# Altium schematic symbol library pporyzala-TI_Lighting.SchLib: 745 symbols (part 5 of 48)
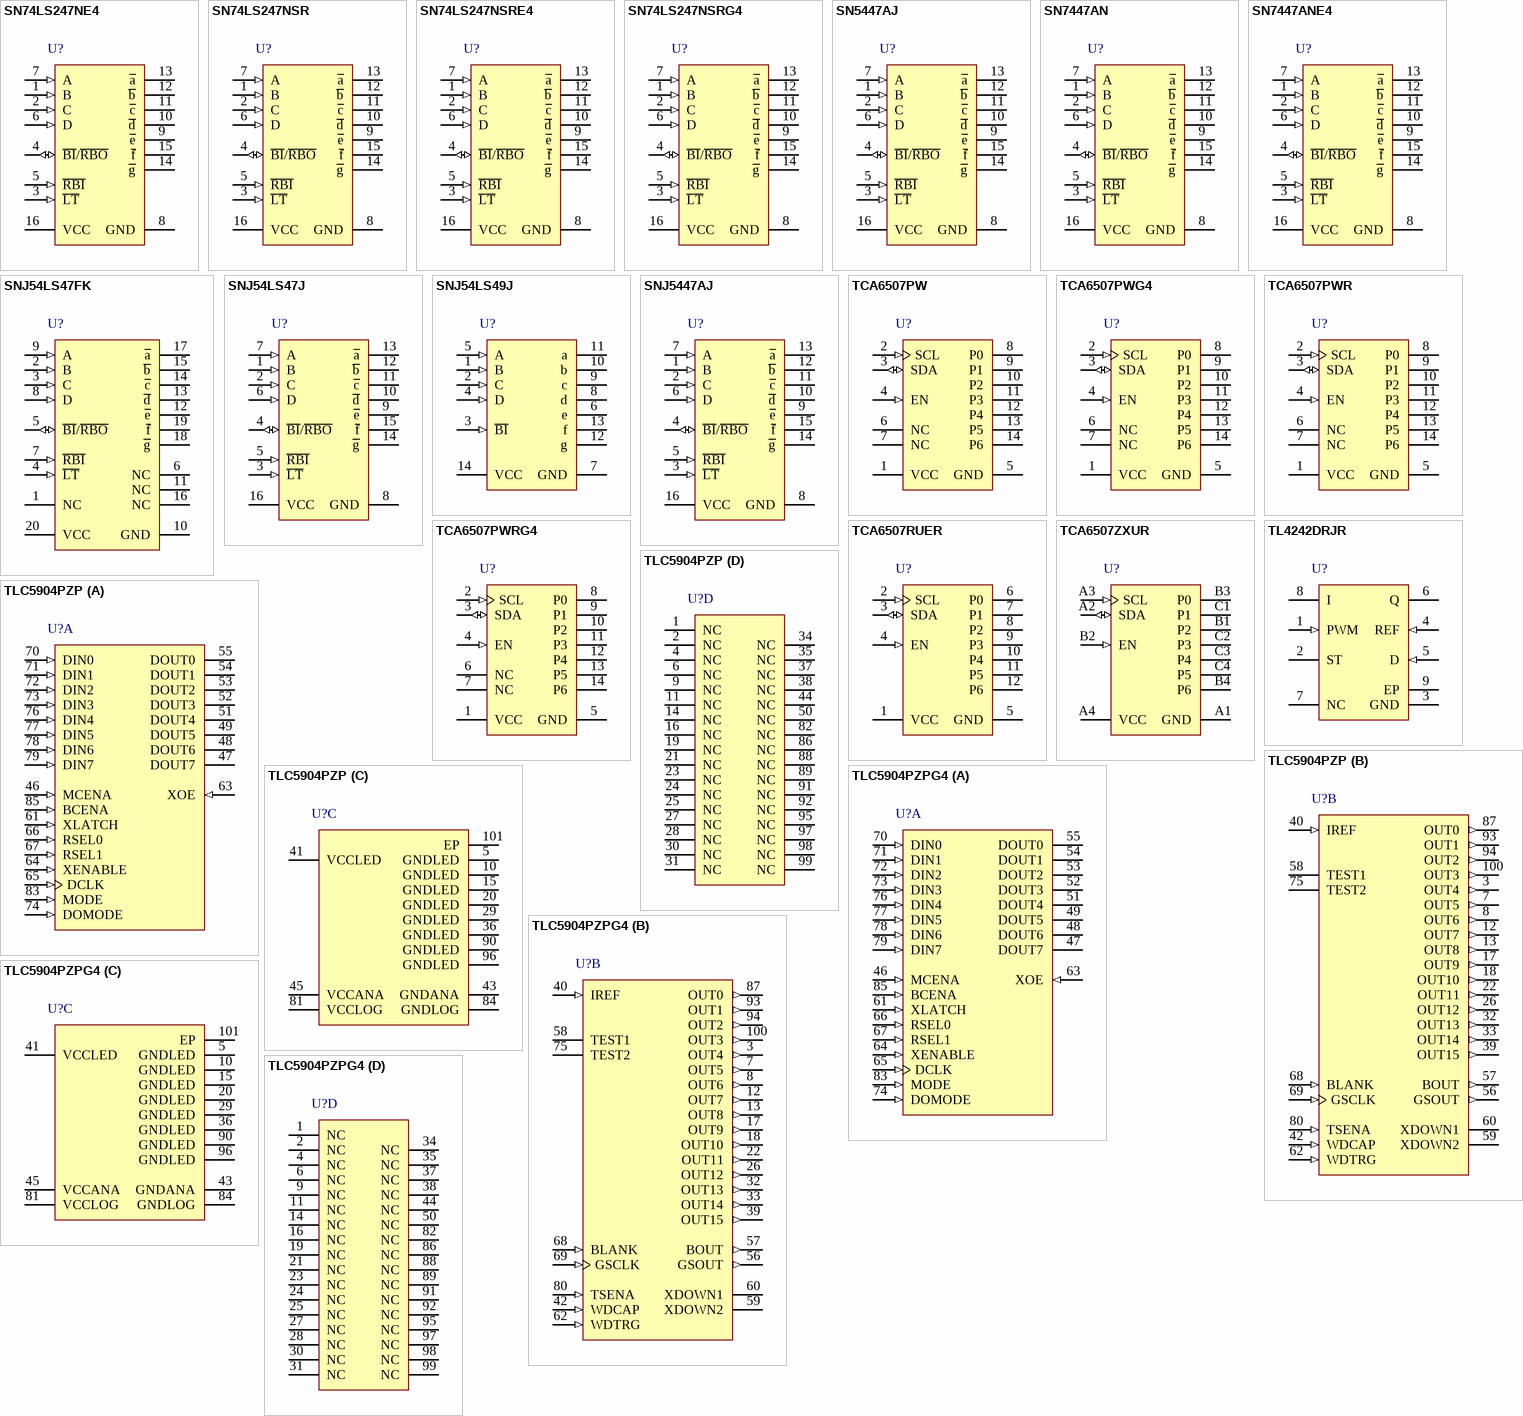
[diagram p35: symbols SN74LS247NE4 to TLC5904PZPG4]

## TLC5904PZPG4
designator U?
8 / 16-Channel LED Driver, 4.5 to 5.5 V, -20 to 85 degC, 100-pin QFP (PZP100), Green (RoHS & no Sb/Br); Manufacturer: Texas Instruments; PartNumber: TLC5904PZPG4; Vin(Max)(V): 5.5; Vin(Min)(V): 4.5; DatasheetVersion: SLLS391; PackageVersion: 4146929/A; PackageReference: PZP100; PackageDescription: 100-Lead, Plastic Flat Pack, Body Size 14 x 14 mm, Pitch 0.5 mm; Supplier 1: Digi-Key; Supplier Part Number 1: TLC5904PZPG4-ND; Supplier 2: Mouser; Supplier Part Number 2: 595-TLC5904PZPG4; Eco-Plan: Green (RoHS & no Sb/Br); SubFamily: LED Driver; Mounting Technology: Surface Mount; Code_JEDEC: MS-026; ComponentLink1Description: Manufacturer URL; ComponentLink1URL: http://www.ti.com/; ComponentLink2Description: Datasheet; ComponentLink2URL: http://www.ti.com/general/docs/lit/getliterature.tsp?genericPartNumber=TLC5904&fileType=pdf; ComponentLink3Description: Package Specification; ComponentLink3URL: http://www.ti.com/lit/ds/symlink/tlc5904.pdf
footprint TI-PZP100-5000X5000TP_N (QFP, 100-Leads, Body 14x14mm, Pitch 0.5mm, Thermal Pad 5x5mm, IPC Medium Density)
footprint TI-PZP100-5000X5000TP_L (QFP, 100-Leads, Body 14x14mm, Pitch 0.5mm, Thermal Pad 5x5mm, IPC High Density)
footprint TI-PZP100-5000X5000TP_M (QFP, 100-Leads, Body 14x14mm, Pitch 0.5mm, Thermal Pad 5x5mm, IPC Low Density)
part A pins: 46 MCENA (in) "OVM enable. When MCENA is low, the OVM latch is set to the default value. The comparison voltage in this status is 0.3V. When MCENA is high, writing to the OVM latch is enabled.", 47 DOUT7 (hiz) "Output for 8 bit parallel data with 3-state. These terminals are outputs to the shift register for gray scale data, brightness control, and OVM. The register selected is determined by RSEL0, 1.", 48 DOUT6 (hiz) "Output for 8 bit parallel data with 3-state. These terminals are outputs to the shift register for gray scale data, brightness control, and OVM. The register selected is determined by RSEL0, 1.", 49 DOUT5 (hiz) "Output for 8 bit parallel data with 3-state. These terminals are outputs to the shift register for gray scale data, brightness control, and OVM. The register selected is determined by RSEL0, 1.", 51 DOUT4 (hiz) "Output for 8 bit parallel data with 3-state. These terminals are outputs to the shift register for gray scale data, brightness control, and OVM. The register selected is determined by RSEL0, 1.", 52 DOUT3 (hiz) "Output for 8 bit parallel data with 3-state. These terminals are outputs to the shift register for gray scale data, brightness control, and OVM. The register selected is determined by RSEL0, 1.", 53 DOUT2 (hiz) "Output for 8 bit parallel data with 3-state. These terminals are outputs to the shift register for gray scale data, brightness control, and OVM. The register selected is determined by RSEL0, 1.", 54 DOUT1 (hiz) "Output for 8 bit parallel data with 3-state. These terminals are outputs to the shift register for gray scale data, brightness control, and OVM. The register selected is determined by RSEL0, 1.", 55 DOUT0 (hiz) "Output for 8 bit parallel data with 3-state. These terminals are outputs to the shift register for gray scale data, brightness control, and OVM. The register selected is determined by RSEL0, 1.", 61 XLATCH (in) "Latch, When XLATCH is high, data on the shift register goes through latch, When XLATCH is low, data is latched. Accordingly, if data on the shift register is changed during XLATCH high, this new value is latched (level (See Datasheet)", 63 XOE (in) "Data output enable. When XOE is low, DOUT0-7 terminals are drived. When XOE is high DOUT0-7 terminals go to a high-impedance state,", 64 XENABLE (in) "DCLK enable. When XENABLE is low, data transfer is enabled, Data transfer starts on the rising edge of DCLK after XENABLE goes low. During XENABLE high, no data is transferred.", 65 DCLK (in) "Clock input for data transfer.The input data is from DIN.All data on the shift register is selected by RSEL0 and RSEL1,and output data at DOUT is shifted by 1 bit synchronizing to DCLK. The data except for DOUT is (See Datasheet)", 66 RSEL0 (in) "Shift register data latch switching. When RSEL1 is low, gray scale data shift register latch is lected at RSEL0 low, and the brightness control register latch is selected at RSEL0 higiie, When RSEL1 is high, the OVM register (See Datasheet)", 67 RSEL1 (in) "Shift register data latch switching. When RSEL1 is low, gray scale data shift register latch is lected at RSEL0 low, and the brightness control register latch is selected at RSEL0 higiie, When RSEL1 is high, the OVM register (See Datasheet)", 70 DIN0 (in) "Input for 8 parallel data. These terminals are inputs to the shift register for gray scale data, brightness control, and OVM. The register selected is determined by RSEL0, 1.", 71 DIN1 (in) "Input for 8 parallel data. These terminals are inputs to the shift register for gray scale data, brightness control, and OVM. The register selected is determined by RSEL0, 1.", 72 DIN2 (in) "Input for 8 parallel data. These terminals are inputs to the shift register for gray scale data, brightness control, and OVM. The register selected is determined by RSEL0, 1.", 73 DIN3 (in) "Input for 8 parallel data. These terminals are inputs to the shift register for gray scale data, brightness control, and OVM. The register selected is determined by RSEL0, 1.", 74 DOMODE (in) "Timing select for data output. When DOMODE is low, DOUT0-7 is changed synchronizing to the rising edge of DCLK. When DOMODE is high, DOUT0-7 is changed synchronizing to the failing edge of DCLK", 76 DIN4 (in) "Input for 8 parallel data. These terminals are inputs to the shift register for gray scale data, brightness control, and OVM. The register selected is determined by RSEL0, 1.", 77 DIN5 (in) "Input for 8 parallel data. These terminals are inputs to the shift register for gray scale data, brightness control, and OVM. The register selected is determined by RSEL0, 1.", 78 DIN6 (in) "Input for 8 parallel data. These terminals are inputs to the shift register for gray scale data, brightness control, and OVM. The register selected is determined by RSEL0, 1.", 79 DIN7 (in) "Input for 8 parallel data. These terminals are inputs to the shift register for gray scale data, brightness control, and OVM. The register selected is determined by RSEL0, 1.", 83 MODE (in) "8/16 bits select. When MODE is high, 16 bits output is selected. When MODE is low, 8 bits output is selected.", 85 BCENA (in) "Brightness control enable. When BCENA is low, the brightness control latch is set to the default value. The output current value in this status is 100% of the setting value by an external resistor.The frequency dibision (See Datasheet)"
part B pins: 3 OUT4 (out) "Constant current output", 7 OUT5 (out) "Constant current output", 8 OUT6 (out) "Constant current output", 12 OUT7 (out) "Constant current output", 13 OUT8 (out) "Constant current output", 17 OUT9 (out) "Constant current output", 18 OUT10 (out) "Constant current output", 22 OUT11 (out) "Constant current output", 26 OUT12 (out) "Constant current output", 32 OUT13 (out) "Constant current output", 33 OUT14 (out) "Constant current output", 39 OUT15 (out) "Constant current output", 40 IREF (in) "Constant current value setting. LED current is set to the desired value by connecting an external resistor between IREF and GND. The 37 times current compares current across the external sink on the output terminal.", 42 WDCAP (in) "WDT (watchdog timer) detection time adjustment. WDT detection time is adjusted by connecting a capacitor between WDCAP and GND. When WDCAP is directly connected to GND, WDT function is disabled. In this case, WDTRG should be (See Datasheet)", 56 GSOUT (out) "Clock delay for gray scale. GSOUT is the output with the addition of delay time to GSCLK.", 57 BOUT (out) "Blank signal delay. BOUT is the output with addition of delay time to BLANK.", 58 TEST1 (power) "TEST. Facory test terminal. TEST1 and TEST2 should be connected to GND for nonnal operation.", 59 XDOWN2 (hiz) "OVM comparator output. XDOWN2 is conhgured as an open collector. It monitors terminal voltage when constant current output is tumed on. XDOWN2 goes low when this voltage is Iowerthan the level selected by OVM latch. When (See Datasheet)", 60 XDOWN1 (oc) "Shutdown, XDOWN1 is configured as open collector. It goes low when constant current output is shut down by WDT or TSD function", 62 WDTRG (in) "WDT (watchdog timer) trigger input. By applying a scan signal to this terminal, the scan signal can be monitored by turning the constant current output off to protect the LED from damage if the scan signal stops during the (See Datasheet)", 68 BLANK (in) "Blank(light off). When BLANK is high, all the output of the constant current driver is turned off. The constant current output, which the gray scale data is not zero, is turned on (LED on) synchronizing to the falling edge (See Datasheet)", 69 GSCLK (in) "Clock input for gray scale. The gray scale display is accomplished by lighting LEDs until the number of GSCLK counted is equal to data lanched", 75 TEST2 (power) "TEST. Facory test terminal. TEST1 and TEST2 should be connected to GND for nonnal operation.", 80 TSENA (in) "TSD(thennaI shutdown) enable, When TSENA is high, TSD is enabled. When TSENA is low, TSD is disabled.", 87 OUT0 (out) "Constant current output", 93 OUT1 (out) "Constant current output", 94 OUT2 (out) "Constant current output", 100 OUT3 (out) "Constant current output"
part C pins: 5 GNDLED (power) "LED driver ground (internally connected to GNDANA and GNDLOG)", 10 GNDLED (power) "LED driver ground (internally connected to GNDANA and GNDLOG)", 15 GNDLED (power) "LED driver ground (internally connected to GNDANA and GNDLOG)", 20 GNDLED (power) "LED driver ground (internally connected to GNDANA and GNDLOG)", 29 GNDLED (power) "LED driver ground (internally connected to GNDANA and GNDLOG)", 36 GNDLED (power) "LED driver ground (internally connected to GNDANA and GNDLOG)", 41 VCCLED (power) "LED driver power supply voltage", 43 GNDANA (power) "Analog ground (internally connected to GNDLOG and GNDLED)", 45 VCCANA (power) "Analog power supply voltage", 81 VCCLOG (power) "Logic power supply voltage", 84 GNDLOG (power) "Logic ground (internally connected to GNDANA and GNDLED)", 90 GNDLED (power) "LED driver ground (internally connected to GNDANA and GNDLOG)", 96 GNDLED (power) "LED driver ground (internally connected to GNDANA and GNDLOG)", 101 EP "Heat sink pad. This pad is connected to the lowest potential IC or themlal layer."
part D pins: 1 NC "No internal connection", 2 NC "No internal connection", 4 NC "No internal connection", 6 NC "No internal connection", 9 NC "No internal connection", 11 NC "No internal connection", 14 NC "No internal connection", 16 NC "No internal connection", 19 NC "No internal connection", 21 NC "No internal connection", 23 NC "No internal connection", 24 NC "No internal connection", 25 NC "No internal connection", 27 NC "No internal connection", 28 NC "No internal connection", 30 NC "No internal connection", 31 NC "No internal connection", 34 NC "No internal connection", 35 NC "No internal connection", 37 NC "No internal connection", 38 NC "No internal connection", 44 NC "No internal connection", 50 NC "No internal connection", 82 NC "No internal connection", 86 NC "No internal connection", 88 NC "No internal connection", 89 NC "No internal connection", 91 NC "No internal connection", 92 NC "No internal connection", 95 NC "No internal connection", 97 NC "No internal connection", 98 NC "No internal connection", 99 NC "No internal connection"

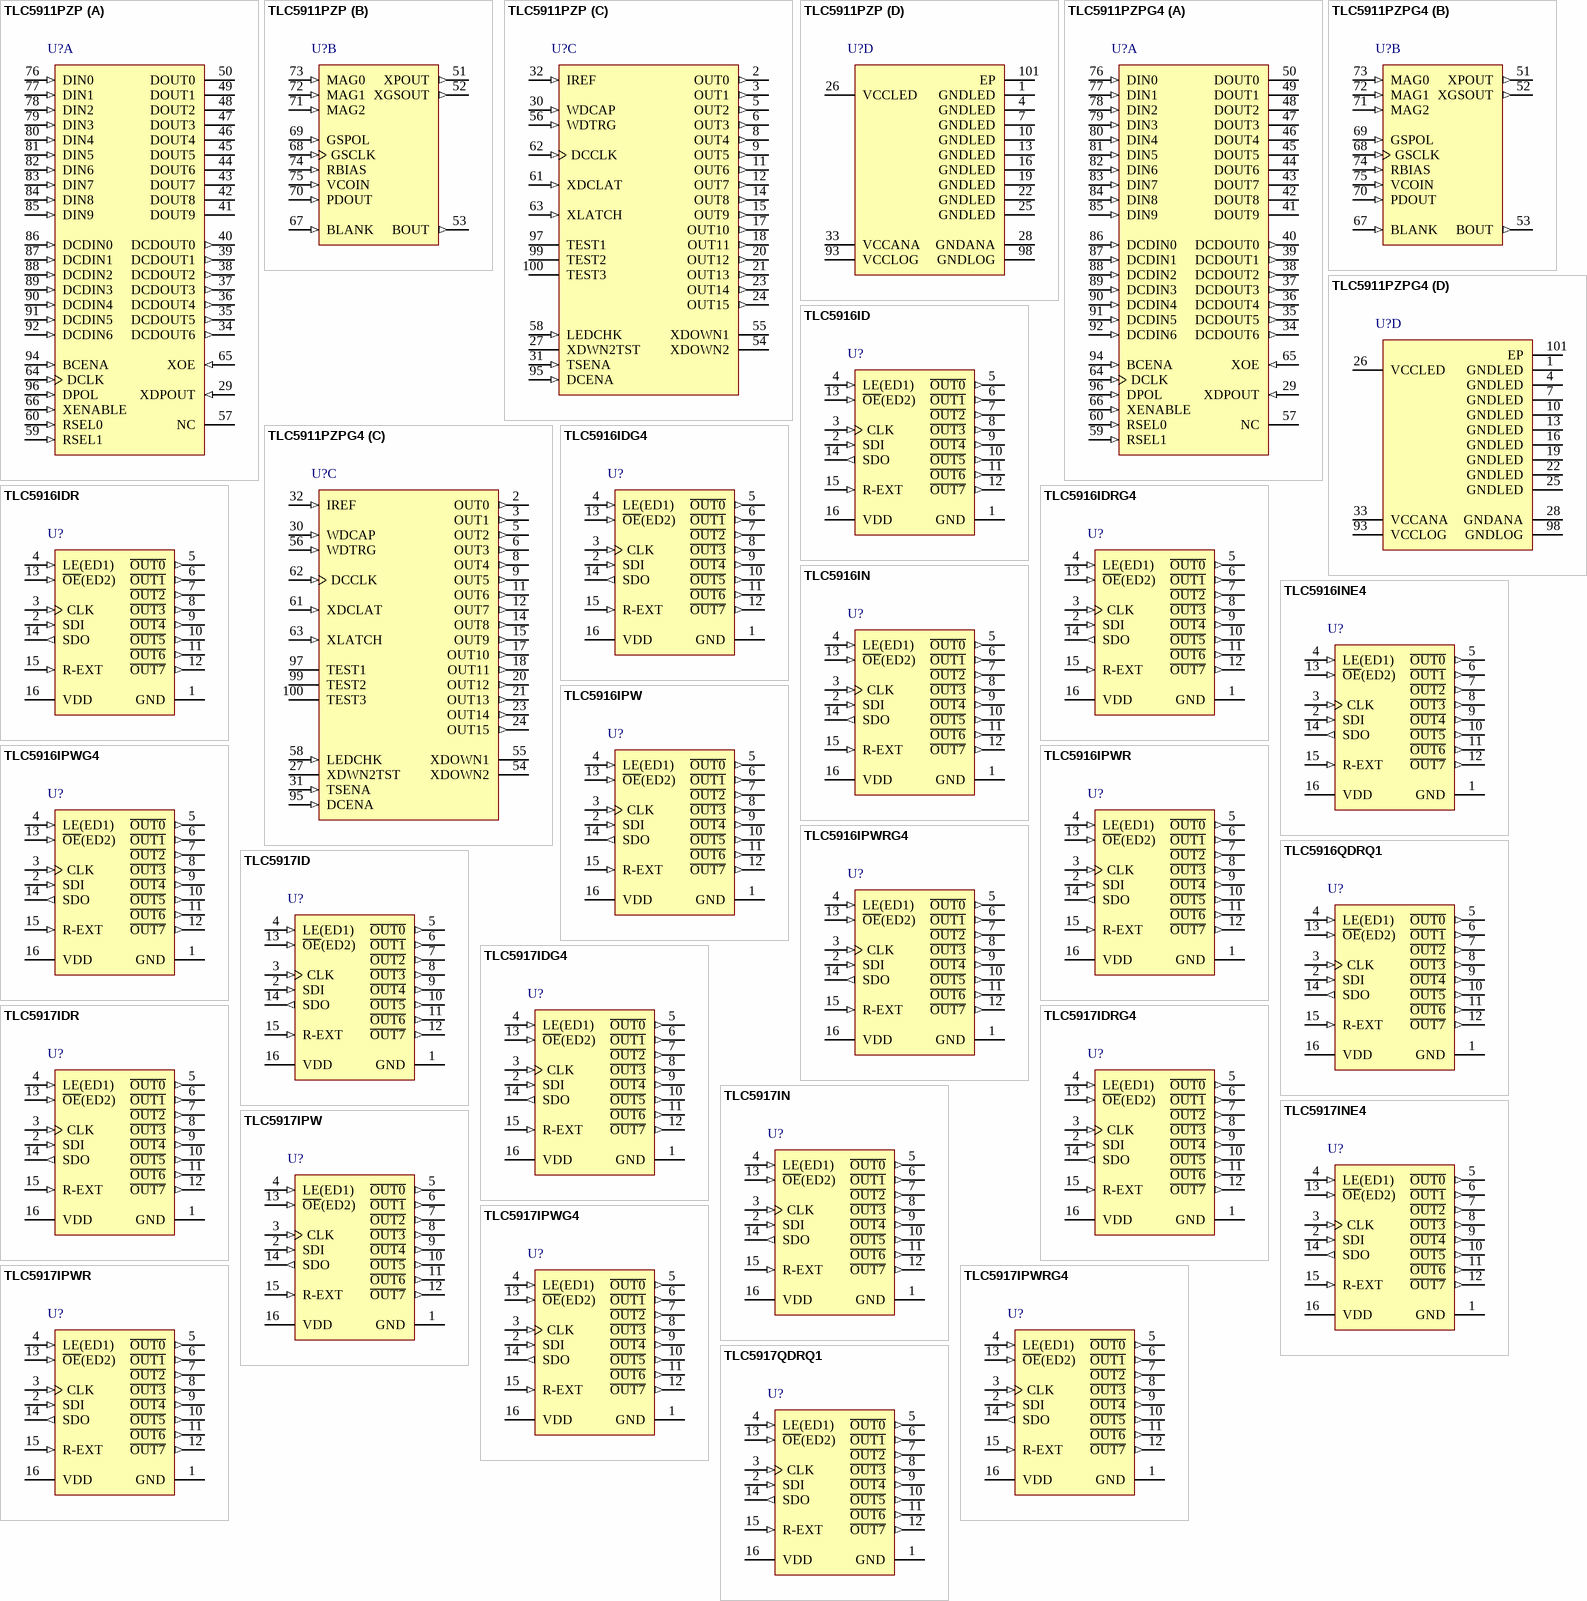
[diagram p4: symbols TLC5911PZP to TLC5917QDRQ1]

## TLC5911PZP
designator U?
16-Channel LED Driver, 4.5 to 5.5 V, -20 to 85 degC, 100-pin QFP (PZP100), Green (RoHS & no Sb/Br); Manufacturer: Texas Instruments; PartNumber: TLC5911PZP; Vin(Max)(V): 5.5; Vin(Min)(V): 4.5; DatasheetVersion: SLLS402; PackageVersion: 4146929/C; PackageReference: PZP100-5445X5445TP; PackageDescription: 100-Lead, Plastic Flat Pack, Body Size 14 x 14 mm, Pitch 0.5 mm; Supplier 1: Digi-Key; Supplier Part Number 1: 296-2381-ND; Supplier 2: Mouser; Supplier Part Number 2: 595-TLC5911PZP; Eco-Plan: Green (RoHS & no Sb/Br); SubFamily: LED Driver; Mounting Technology: Surface Mount; Code_JEDEC: MS-026; ComponentLink1Description: Manufacturer URL; ComponentLink1URL: http://www.ti.com/; ComponentLink2Description: Datasheet; ComponentLink2URL: http://www.ti.com/general/docs/lit/getliterature.tsp?genericPartNumber=TLC5911&fileType=pdf; ComponentLink3Description: Package Specification; ComponentLink3URL: http://www.ti.com/litv/pdf/mpqf053b
footprint TI-PZP100-5445X5445TP_N (QFP, 100-Leads, Body 14x14mm, Pitch 0.5mm, Thermal Pad 5.445x5.445mm, IPC Medium Density)
footprint TI-PZP100-5445X5445TP_L (QFP, 100-Leads, Body 14x14mm, Pitch 0.5mm, Thermal Pad 5.445x5.445mm, IPC High Density)
footprint TI-PZP100-5445X5445TP_M (QFP, 100-Leads, Body 14x14mm, Pitch 0.5mm, Thermal Pad 5.445x5.445mm, IPC Low Density)
part A pins: 29 XDPOUT (in) "DPOL output inverted", 34 DCDOUT6 (out) "Output for 7 bit parallel data (port B).These terminals are used as shift register output for dot correction data.", 35 DCDOUT5 (out) "Output for 7 bit parallel data (port B).These terminals are used as shift register output for dot correction data.", 36 DCDOUT4 (out) "Output for 7 bit parallel data (port B).These terminals are used as shift register output for dot correction data.", 37 DCDOUT3 (out) "Output for 7 bit parallel data (port B).These terminals are used as shift register output for dot correction data.", 38 DCDOUT2 (out) "Output for 7 bit parallel data (port B).These terminals are used as shift register output for dot correction data.", 39 DCDOUT1 (out) "Output for 7 bit parallel data (port B).These terminals are used as shift register output for dot correction data.", 40 DCDOUT0 (out) "Output for 7 bit parallel data (port B).These terminals are used as shift register output for dot correction data.", 41 DOUT9 (hiz) "Output for 10bit parallel data (port A).These terminals are outputs for shift register for gray scale data,brightness control ,and dot correction data .The register selected is determined by RSEL0,1", 42 DOUT8 (hiz) "Output for 10bit parallel data (port A).These terminals are outputs for shift register for gray scale data,brightness control ,and dot correction data .The register selected is determined by RSEL0,1", 43 DOUT7 (hiz) "Output for 10bit parallel data (port A).These terminals are outputs for shift register for gray scale data,brightness control ,and dot correction data .The register selected is determined by RSEL0,1", 44 DOUT6 (hiz) "Output for 10bit parallel data (port A).These terminals are outputs for shift register for gray scale data,brightness control ,and dot correction data .The register selected is determined by RSEL0,1", 45 DOUT5 (hiz) "Output for 10bit parallel data (port A).These terminals are outputs for shift register for gray scale data,brightness control ,and dot correction data .The register selected is determined by RSEL0,1", 46 DOUT4 (hiz) "Output for 10bit parallel data (port A).These terminals are outputs for shift register for gray scale data,brightness control ,and dot correction data .The register selected is determined by RSEL0,1", 47 DOUT3 (hiz) "Output for 10bit parallel data (port A).These terminals are outputs for shift register for gray scale data,brightness control ,and dot correction data .The register selected is determined by RSEL0,1", 48 DOUT2 (hiz) "Output for 10bit parallel data (port A).These terminals are outputs for shift register for gray scale data,brightness control ,and dot correction data .The register selected is determined by RSEL0,1", 49 DOUT1 (hiz) "Output for 10bit parallel data (port A).These terminals are outputs for shift register for gray scale data,brightness control ,and dot correction data .The register selected is determined by RSEL0,1", 50 DOUT0 (hiz) "Output for 10bit parallel data (port A).These terminals are outputs for shift register for gray scale data,brightness control ,and dot correction data .The register selected is determined by RSEL0,1", 57 NC "No internal connection", 59 RSEL1 (in) "Input/output port selection and shift register data latch switching.When RSEL1 is low and RSEL0 is low ,the gray scale data shift register latch is selected to port A ,and the dot correction register latch is selected to (See Datasheet)", 60 RSEL0 (in) "Input/output port selection and shift register data latch switching.When RSEL1 is low and RSEL0 is low ,the gray scale data shift register latch is selected to port A ,and the dot correction register latch is selected to (See Datasheet)", 64 DCLK (in) "Clock input for data transfer.The input data is from DIN (port A),all the data in the shift register selected by RSEL0,1 and the output data are DOUT are shifted by 1bit and synchronized to DCLK.Note that whether (See Datasheet)", 65 XOE (in) "Data output enable .When XOE is low,the DOUT0-9 terminals are driven .When XOE is high ,the DOUT0-9 terminals go to a high-impedance state.", 66 XENABLE (in) "DCLK enable.When XENABLE is low,data transfer is enabled.Data transfer starts on the valid edge of DCLK after XENABLE goes low .During XENABLE high , no data is transferred.", 76 DIN0 (in) "Input for 10bit parallel data (port A).These terminals are inputs for shift register for gray scale data,brightness control ,and dot correction data .The register selected is determined by RSEL0,1", 77 DIN1 (in) "Input for 10bit parallel data (port A).These terminals are inputs for shift register for gray scale data,brightness control ,and dot correction data .The register selected is determined by RSEL0,1", 78 DIN2 (in) "Input for 10bit parallel data (port A).These terminals are inputs for shift register for gray scale data,brightness control ,and dot correction data .The register selected is determined by RSEL0,1", 79 DIN3 (in) "Input for 10bit parallel data (port A).These terminals are inputs for shift register for gray scale data,brightness control ,and dot correction data .The register selected is determined by RSEL0,1", 80 DIN4 (in) "Input for 10bit parallel data (port A).These terminals are inputs for shift register for gray scale data,brightness control ,and dot correction data .The register selected is determined by RSEL0,1", 81 DIN5 (in) "Input for 10bit parallel data (port A).These terminals are inputs for shift register for gray scale data,brightness control ,and dot correction data .The register selected is determined by RSEL0,1", 82 DIN6 (in) "Input for 10bit parallel data (port A).These terminals are inputs for shift register for gray scale data,brightness control ,and dot correction data .The register selected is determined by RSEL0,1", 83 DIN7 (in) "Input for 10bit parallel data (port A).These terminals are inputs for shift register for gray scale data,brightness control ,and dot correction data .The register selected is determined by RSEL0,1", 84 DIN8 (in) "Input for 10bit parallel data (port A).These terminals are inputs for shift register for gray scale data,brightness control ,and dot correction data .The register selected is determined by RSEL0,1", 85 DIN9 (in) "Input for 10bit parallel data (port A).These terminals are inputs for shift register for gray scale data,brightness control ,and dot correction data .The register selected is determined by RSEL0,1", 86 DCDIN0 (in) "Input for 7 bit parallel data (port B).These terminals are used as shift register input for dot correction data.", 87 DCDIN1 (in) "Input for 7 bit parallel data (port B).These terminals are used as shift register input for dot correction data.", 88 DCDIN2 (in) "Input for 7 bit parallel data (port B).These terminals are used as shift register input for dot correction data.", 89 DCDIN3 (in) "Input for 7 bit parallel data (port B).These terminals are used as shift register input for dot correction data.", 90 DCDIN4 (in) "Input for 7 bit parallel data (port B).These terminals are used as shift register input for dot correction data.", 91 DCDIN5 (in) "Input for 7 bit parallel data (port B).These terminals are used as shift register input for dot correction data.", 92 DCDIN6 (in) "Input for 7 bit parallel data (port B).These terminals are used as shift register input for dot correction data.", 94 BCENA (in) "Brightness control enable .When BCENA is low , the brightness control latch is set to the defaylt value. The output current value in this status is 100% of the value set by an external resistor.The frequency division ration (See Datasheet)", 96 DPOL (in) "Selects the valid edge of DCLK.When DPOL is high , the rising edge of DCLK is valid .When DPOL is low ,the falling edge of DCLK is valid."
part B pins: 51 XPOUT (out) "GSPOL output inverted.", 52 XGSOUT (out) "Clock output for gray scale .When MAG0 through MAG2 are all low, a clock with GSCLK inverted appears on this terminal.When MAG0 through MAG2 are not low ,PLLCLK appears on this terminal.", 53 BOUT (out) "BLANK buffered output", 67 BLANK (in) "Blank (Light off ).When BLANK is high,all output of the constant current driver are turned off.When GSPOL is high ,all the output is turned on (LED on)synchronizing to the falling edge of GCLK after next rising edge of GSCLK (See Datasheet)", 68 GSCLK (in) "Clock input for gray scale .When MAG0 through MAG2 are all low ,GSCLK is used for pulse width control.When MAG0 through MAG2 are not low ,GSCLK is used for PLL timing control. The gray scale display is accomplished by (See Datasheet)", 69 GSPOL (in) "Select the valid edge of GSCLK ,When GSCLK.When GSPOL is high ,the rising edge of GSCLK is valid .When GSPOL is low ,the falling edge of GSCLK is valid.", 70 PDOUT (in) "Resistor connection for PLL feedback adjustment.", 71 MAG2 (in) "PLL multiple ratio setting.The clock frequency generated by PLL referenced to GSCLK is set .", 72 MAG1 (in) "PLL multiple ratio setting.The clock frequency generated by PLL referenced to GSCLK is set .", 73 MAG0 (in) "PLL multiple ratio setting.The clock frequency generated by PLL referenced to GSCLK is set .", 74 RBIAS (in) "Resistor connection for PLL oscillation frequency setting.", 75 VCOIN (in) "Capacitance connection for PLL feedback adjustment."
part C pins: 2 OUT0 (out) "Constant current output", 3 OUT1 (out) "Constant current output", 5 OUT2 (out) "Constant current output", 6 OUT3 (out) "Constant current output", 8 OUT4 (out) "Constant current output", 9 OUT5 (out) "Constant current output", 11 OUT6 (out) "Constant current output", 12 OUT7 (out) "Constant current output", 14 OUT8 (out) "Constant current output", 15 OUT9 (out) "Constant current output", 17 OUT10 (out) "Constant current output", 18 OUT11 (out) "Constant current output", 20 OUT12 (out) "Constant current output", 21 OUT13 (out) "Constant current output", 23 OUT14 (out) "Constant current output", 24 OUT15 (out) "Constant current output", 27 XDWN2TST "Test for XDOWN2.When XDWN2TST is low,XDOWN2 goes low .(this terminal is internally pulled up with 50kohm)", 30 WDCAP (in) "WDT detection time adjustment.WDT detection time is adjusted by connecting a capacitor between WDCAP and GND .When WDCAP is directly connected to GND ,the WDT function is disabled .In this case ,WDTRG should be tied to high (See Datasheet)", 31 TSENA (in) "TSD enable .When TSENA is high ,TSD is enabled.When TSENA is low ,TSD is disabled .", 32 IREF (in) "Constant current value setting .LED current is set to the desired value by connecting an external resistor between IREF and GND.The 38 times current is compared to current across the external resistor sink on the output (See Datasheet)", 54 XDOWN2 (hiz) "LED disconnection detection output.XDOWN2 is configured as open collector .XDOWN2 goes low when a LED disconnection is detected.", 55 XDOWN1 (oc) "Shutdown. XDOWN1 is configured as open collector .It goes low when constant current output is shut down by the WDT or TSD function.", 56 WDTRG (in) "WDT trigger input.By applying a scan signal to this terminal,the scan signal can be monitored by turning the constant current output off and protecting the LED from the damage of burning when the scan signal stops during the (See Datasheet)", 58 LEDCHK (in) "LED disconnection detection enable .When LEDCHK is high ,the LED disconnection detection is enabled and XDOWN2 is valid.When LEDCHK is low , the LED disconnection detection is disabled.", 61 XDCLAT (in) "Data latch for dot correction .When XDCLAT is high ,data on the shift register for dot correction data from DCDIN (port B)goes through latch.When XDCLAT is low ,the data is latched .Accordingly, if data on the shift register (See Datasheet)", 62 DCCLK (in) "Clock input for data transfer.The input data is from DCDIN (portB). The output data at DCDOUT.All data on the shift register for dot correction data from DCDIN is shifted by 1 bit and is synchronized to the rising edge of (See Datasheet)", 63 XLATCH (in) "Latch.When XLATCH is high,data on shift register from DIN(portA) goes through latch .When XLATCH is low ,data is latched .Accordingly, if the data on the shift register is changed during XLATCH high .this new value is (See Datasheet)", 95 DCENA (in) "Latch enable for dot corection data .When DCENA is low,the latch is set to the default value.At this time ,the output current value is 100% of the value set by an external resistor.", 97 TEST1 (power) "TEST.Factory test terminal .These terminals should be connected to GND.", 99 TEST2 (power) "TEST.Factory test terminal .These terminals should be connected to GND.", 100 TEST3 (power) "TEST.Factory test terminal .These terminals should be connected to GND."
part D pins: 1 GNDLED (power) "LED driver ground (Internally connected to GNDANA and GNDLED )", 4 GNDLED (power) "LED driver ground (Internally connected to GNDANA and GNDLED )", 7 GNDLED (power) "LED driver ground (Internally connected to GNDANA and GNDLED )", 10 GNDLED (power) "LED driver ground (Internally connected to GNDANA and GNDLED )", 13 GNDLED (power) "LED driver ground (Internally connected to GNDANA and GNDLED )", 16 GNDLED (power) "LED driver ground (Internally connected to GNDANA and GNDLED )", 19 GNDLED (power) "LED driver ground (Internally connected to GNDANA and GNDLED )", 22 GNDLED (power) "LED driver ground (Internally connected to GNDANA and GNDLED )", 25 GNDLED (power) "LED driver ground (Internally connected to GNDANA and GNDLED )", 26 VCCLED (power) "LED driver power supply voltage", 28 GNDANA (power) "Analog ground (Internally connected to GNDLOG and GNDLED )", 33 VCCANA (power) "Analog power supply voltage.", 93 VCCLOG (power) "Logic power supply voltage", 98 GNDLOG (power) "Logic ground (Internally connected to GNDANA and GNDLED)", 101 EP "Heat sink pad. This pad is connected to the lowest potential IC or thermal layer."

## TLC5911PZPG4
designator U?
16-Channel LED Driver, 4.5 to 5.5 V, -20 to 85 degC, 100-pin QFP (PZP100), Green (RoHS & no Sb/Br); Manufacturer: Texas Instruments; PartNumber: TLC5911PZPG4; Vin(Max)(V): 5.5; Vin(Min)(V): 4.5; DatasheetVersion: SLLS402; PackageVersion: 4146929/C; PackageReference: PZP100-5445X5445TP; PackageDescription: 100-Lead, Plastic Flat Pack, Body Size 14 x 14 mm, Pitch 0.5 mm; Supplier 1: Digi-Key; Supplier Part Number 1: TLC5911PZPG4-ND; Supplier 2: Newark; Supplier Part Number 2: 28K5668; Supplier 3: Mouser; Supplier Part Number 3: 595-TLC5911PZPG4; Eco-Plan: Green (RoHS & no Sb/Br); SubFamily: LED Driver; Mounting Technology: Surface Mount; Code_JEDEC: MS-026; ComponentLink1Description: Manufacturer URL; ComponentLink1URL: http://www.ti.com/; ComponentLink2Description: Datasheet; ComponentLink2URL: http://www.ti.com/general/docs/lit/getliterature.tsp?genericPartNumber=TLC5911&fileType=pdf; ComponentLink3Description: Package Specification; ComponentLink3URL: http://www.ti.com/litv/pdf/mpqf053b
footprint TI-PZP100-5445X5445TP_N (QFP, 100-Leads, Body 14x14mm, Pitch 0.5mm, Thermal Pad 5.445x5.445mm, IPC Medium Density)
footprint TI-PZP100-5445X5445TP_L (QFP, 100-Leads, Body 14x14mm, Pitch 0.5mm, Thermal Pad 5.445x5.445mm, IPC High Density)
footprint TI-PZP100-5445X5445TP_M (QFP, 100-Leads, Body 14x14mm, Pitch 0.5mm, Thermal Pad 5.445x5.445mm, IPC Low Density)
part A pins: 29 XDPOUT (in) "DPOL output inverted", 34 DCDOUT6 (out) "Output for 7 bit parallel data (port B).These terminals are used as shift register output for dot correction data.", 35 DCDOUT5 (out) "Output for 7 bit parallel data (port B).These terminals are used as shift register output for dot correction data.", 36 DCDOUT4 (out) "Output for 7 bit parallel data (port B).These terminals are used as shift register output for dot correction data.", 37 DCDOUT3 (out) "Output for 7 bit parallel data (port B).These terminals are used as shift register output for dot correction data.", 38 DCDOUT2 (out) "Output for 7 bit parallel data (port B).These terminals are used as shift register output for dot correction data.", 39 DCDOUT1 (out) "Output for 7 bit parallel data (port B).These terminals are used as shift register output for dot correction data.", 40 DCDOUT0 (out) "Output for 7 bit parallel data (port B).These terminals are used as shift register output for dot correction data.", 41 DOUT9 (hiz) "Output for 10bit parallel data (port A).These terminals are outputs for shift register for gray scale data,brightness control ,and dot correction data .The register selected is determined by RSEL0,1", 42 DOUT8 (hiz) "Output for 10bit parallel data (port A).These terminals are outputs for shift register for gray scale data,brightness control ,and dot correction data .The register selected is determined by RSEL0,1", 43 DOUT7 (hiz) "Output for 10bit parallel data (port A).These terminals are outputs for shift register for gray scale data,brightness control ,and dot correction data .The register selected is determined by RSEL0,1", 44 DOUT6 (hiz) "Output for 10bit parallel data (port A).These terminals are outputs for shift register for gray scale data,brightness control ,and dot correction data .The register selected is determined by RSEL0,1", 45 DOUT5 (hiz) "Output for 10bit parallel data (port A).These terminals are outputs for shift register for gray scale data,brightness control ,and dot correction data .The register selected is determined by RSEL0,1", 46 DOUT4 (hiz) "Output for 10bit parallel data (port A).These terminals are outputs for shift register for gray scale data,brightness control ,and dot correction data .The register selected is determined by RSEL0,1", 47 DOUT3 (hiz) "Output for 10bit parallel data (port A).These terminals are outputs for shift register for gray scale data,brightness control ,and dot correction data .The register selected is determined by RSEL0,1", 48 DOUT2 (hiz) "Output for 10bit parallel data (port A).These terminals are outputs for shift register for gray scale data,brightness control ,and dot correction data .The register selected is determined by RSEL0,1", 49 DOUT1 (hiz) "Output for 10bit parallel data (port A).These terminals are outputs for shift register for gray scale data,brightness control ,and dot correction data .The register selected is determined by RSEL0,1", 50 DOUT0 (hiz) "Output for 10bit parallel data (port A).These terminals are outputs for shift register for gray scale data,brightness control ,and dot correction data .The register selected is determined by RSEL0,1", 57 NC "No internal connection", 59 RSEL1 (in) "Input/output port selection and shift register data latch switching.When RSEL1 is low and RSEL0 is low ,the gray scale data shift register latch is selected to port A ,and the dot correction register latch is selected to (See Datasheet)", 60 RSEL0 (in) "Input/output port selection and shift register data latch switching.When RSEL1 is low and RSEL0 is low ,the gray scale data shift register latch is selected to port A ,and the dot correction register latch is selected to (See Datasheet)", 64 DCLK (in) "Clock input for data transfer.The input data is from DIN (port A),all the data in the shift register selected by RSEL0,1 and the output data are DOUT are shifted by 1bit and synchronized to DCLK.Note that whether (See Datasheet)", 65 XOE (in) "Data output enable .When XOE is low,the DOUT0-9 terminals are driven .When XOE is high ,the DOUT0-9 terminals go to a high-impedance state.", 66 XENABLE (in) "DCLK enable.When XENABLE is low,data transfer is enabled.Data transfer starts on the valid edge of DCLK after XENABLE goes low .During XENABLE high , no data is transferred.", 76 DIN0 (in) "Input for 10bit parallel data (port A).These terminals are inputs for shift register for gray scale data,brightness control ,and dot correction data .The register selected is determined by RSEL0,1", 77 DIN1 (in) "Input for 10bit parallel data (port A).These terminals are inputs for shift register for gray scale data,brightness control ,and dot correction data .The register selected is determined by RSEL0,1", 78 DIN2 (in) "Input for 10bit parallel data (port A).These terminals are inputs for shift register for gray scale data,brightness control ,and dot correction data .The register selected is determined by RSEL0,1", 79 DIN3 (in) "Input for 10bit parallel data (port A).These terminals are inputs for shift register for gray scale data,brightness control ,and dot correction data .The register selected is determined by RSEL0,1", 80 DIN4 (in) "Input for 10bit parallel data (port A).These terminals are inputs for shift register for gray scale data,brightness control ,and dot correction data .The register selected is determined by RSEL0,1", 81 DIN5 (in) "Input for 10bit parallel data (port A).These terminals are inputs for shift register for gray scale data,brightness control ,and dot correction data .The register selected is determined by RSEL0,1", 82 DIN6 (in) "Input for 10bit parallel data (port A).These terminals are inputs for shift register for gray scale data,brightness control ,and dot correction data .The register selected is determined by RSEL0,1", 83 DIN7 (in) "Input for 10bit parallel data (port A).These terminals are inputs for shift register for gray scale data,brightness control ,and dot correction data .The register selected is determined by RSEL0,1", 84 DIN8 (in) "Input for 10bit parallel data (port A).These terminals are inputs for shift register for gray scale data,brightness control ,and dot correction data .The register selected is determined by RSEL0,1", 85 DIN9 (in) "Input for 10bit parallel data (port A).These terminals are inputs for shift register for gray scale data,brightness control ,and dot correction data .The register selected is determined by RSEL0,1", 86 DCDIN0 (in) "Input for 7 bit parallel data (port B).These terminals are used as shift register input for dot correction data.", 87 DCDIN1 (in) "Input for 7 bit parallel data (port B).These terminals are used as shift register input for dot correction data.", 88 DCDIN2 (in) "Input for 7 bit parallel data (port B).These terminals are used as shift register input for dot correction data.", 89 DCDIN3 (in) "Input for 7 bit parallel data (port B).These terminals are used as shift register input for dot correction data.", 90 DCDIN4 (in) "Input for 7 bit parallel data (port B).These terminals are used as shift register input for dot correction data.", 91 DCDIN5 (in) "Input for 7 bit parallel data (port B).These terminals are used as shift register input for dot correction data.", 92 DCDIN6 (in) "Input for 7 bit parallel data (port B).These terminals are used as shift register input for dot correction data.", 94 BCENA (in) "Brightness control enable .When BCENA is low , the brightness control latch is set to the defaylt value. The output current value in this status is 100% of the value set by an external resistor.The frequency division ration (See Datasheet)", 96 DPOL (in) "Selects the valid edge of DCLK.When DPOL is high , the rising edge of DCLK is valid .When DPOL is low ,the falling edge of DCLK is valid."
part B pins: 51 XPOUT (out) "GSPOL output inverted.", 52 XGSOUT (out) "Clock output for gray scale .When MAG0 through MAG2 are all low, a clock with GSCLK inverted appears on this terminal.When MAG0 through MAG2 are not low ,PLLCLK appears on this terminal.", 53 BOUT (out) "BLANK buffered output", 67 BLANK (in) "Blank (Light off ).When BLANK is high,all output of the constant current driver are turned off.When GSPOL is high ,all the output is turned on (LED on)synchronizing to the falling edge of GCLK after next rising edge of GSCLK (See Datasheet)", 68 GSCLK (in) "Clock input for gray scale .When MAG0 through MAG2 are all low ,GSCLK is used for pulse width control.When MAG0 through MAG2 are not low ,GSCLK is used for PLL timing control. The gray scale display is accomplished by (See Datasheet)", 69 GSPOL (in) "Select the valid edge of GSCLK ,When GSCLK.When GSPOL is high ,the rising edge of GSCLK is valid .When GSPOL is low ,the falling edge of GSCLK is valid.", 70 PDOUT (in) "Resistor connection for PLL feedback adjustment.", 71 MAG2 (in) "PLL multiple ratio setting.The clock frequency generated by PLL referenced to GSCLK is set .", 72 MAG1 (in) "PLL multiple ratio setting.The clock frequency generated by PLL referenced to GSCLK is set .", 73 MAG0 (in) "PLL multiple ratio setting.The clock frequency generated by PLL referenced to GSCLK is set .", 74 RBIAS (in) "Resistor connection for PLL oscillation frequency setting.", 75 VCOIN (in) "Capacitance connection for PLL feedback adjustment."
part C pins: 2 OUT0 (out) "Constant current output", 3 OUT1 (out) "Constant current output", 5 OUT2 (out) "Constant current output", 6 OUT3 (out) "Constant current output", 8 OUT4 (out) "Constant current output", 9 OUT5 (out) "Constant current output", 11 OUT6 (out) "Constant current output", 12 OUT7 (out) "Constant current output", 14 OUT8 (out) "Constant current output", 15 OUT9 (out) "Constant current output", 17 OUT10 (out) "Constant current output", 18 OUT11 (out) "Constant current output", 20 OUT12 (out) "Constant current output", 21 OUT13 (out) "Constant current output", 23 OUT14 (out) "Constant current output", 24 OUT15 (out) "Constant current output", 27 XDWN2TST "Test for XDOWN2.When XDWN2TST is low,XDOWN2 goes low .(this terminal is internally pulled up with 50kohm)", 30 WDCAP (in) "WDT detection time adjustment.WDT detection time is adjusted by connecting a capacitor between WDCAP and GND .When WDCAP is directly connected to GND ,the WDT function is disabled .In this case ,WDTRG should be tied to high (See Datasheet)", 31 TSENA (in) "TSD enable .When TSENA is high ,TSD is enabled.When TSENA is low ,TSD is disabled .", 32 IREF (in) "Constant current value setting .LED current is set to the desired value by connecting an external resistor between IREF and GND.The 38 times current is compared to current across the external resistor sink on the output (See Datasheet)", 54 XDOWN2 (hiz) "LED disconnection detection output.XDOWN2 is configured as open collector .XDOWN2 goes low when a LED disconnection is detected.", 55 XDOWN1 (oc) "Shutdown. XDOWN1 is configured as open collector .It goes low when constant current output is shut down by the WDT or TSD function.", 56 WDTRG (in) "WDT trigger input.By applying a scan signal to this terminal,the scan signal can be monitored by turning the constant current output off and protecting the LED from the damage of burning when the scan signal stops during the (See Datasheet)", 58 LEDCHK (in) "LED disconnection detection enable .When LEDCHK is high ,the LED disconnection detection is enabled and XDOWN2 is valid.When LEDCHK is low , the LED disconnection detection is disabled.", 61 XDCLAT (in) "Data latch for dot correction .When XDCLAT is high ,data on the shift register for dot correction data from DCDIN (port B)goes through latch.When XDCLAT is low ,the data is latched .Accordingly, if data on the shift register (See Datasheet)", 62 DCCLK (in) "Clock input for data transfer.The input data is from DCDIN (portB). The output data at DCDOUT.All data on the shift register for dot correction data from DCDIN is shifted by 1 bit and is synchronized to the rising edge of (See Datasheet)", 63 XLATCH (in) "Latch.When XLATCH is high,data on shift register from DIN(portA) goes through latch .When XLATCH is low ,data is latched .Accordingly, if the data on the shift register is changed during XLATCH high .this new value is (See Datasheet)", 95 DCENA (in) "Latch enable for dot corection data .When DCENA is low,the latch is set to the default value.At this time ,the output current value is 100% of the value set by an external resistor.", 97 TEST1 (power) "TEST.Factory test terminal .These terminals should be connected to GND.", 99 TEST2 (power) "TEST.Factory test terminal .These terminals should be connected to GND.", 100 TEST3 (power) "TEST.Factory test terminal .These terminals should be connected to GND."
part D pins: 1 GNDLED (power) "LED driver ground (Internally connected to GNDANA and GNDLED )", 4 GNDLED (power) "LED driver ground (Internally connected to GNDANA and GNDLED )", 7 GNDLED (power) "LED driver ground (Internally connected to GNDANA and GNDLED )", 10 GNDLED (power) "LED driver ground (Internally connected to GNDANA and GNDLED )", 13 GNDLED (power) "LED driver ground (Internally connected to GNDANA and GNDLED )", 16 GNDLED (power) "LED driver ground (Internally connected to GNDANA and GNDLED )", 19 GNDLED (power) "LED driver ground (Internally connected to GNDANA and GNDLED )", 22 GNDLED (power) "LED driver ground (Internally connected to GNDANA and GNDLED )", 25 GNDLED (power) "LED driver ground (Internally connected to GNDANA and GNDLED )", 26 VCCLED (power) "LED driver power supply voltage", 28 GNDANA (power) "Analog ground (Internally connected to GNDLOG and GNDLED )", 33 VCCANA (power) "Analog power supply voltage.", 93 VCCLOG (power) "Logic power supply voltage", 98 GNDLOG (power) "Logic ground (Internally connected to GNDANA and GNDLED)", 101 EP "Heat sink pad. This pad is connected to the lowest potential IC or thermal layer."

## TLC5916ID
designator U?
8-Bit Constant-Current LED Sink Driver, 3 to 5.5 V, -40 to 125 degC, 16-pin SOIC (D16), Green (RoHS & no Sb/Br); Manufacturer: Texas Instruments; PartNumber: TLC5916ID; Iout(Max)(A): 0.12; Rating: Catalog; SubFamily: Signage/Linear; Vin(Max)(V): 5.5; Vin(Min)(V): 3; DatasheetVersion: SLVS695C; PackageVersion: 4040047-6/M; PackageReference: D16; PackageDescription: 16-Pin Plastic Small Outline, Body 9.90 x 3.90 mm, Pitch 1.27 mm; Supplier 1: Digi-Key; Supplier Part Number 1: 296-34369-5-ND; Supplier 2: Farnell; Supplier Part Number 2: 1755247; Supplier 3: Newark; Supplier Part Number 3: 60M1745; Supplier 4: Mouser; Supplier Part Number 4: 595-TLC5916ID; Eco-Plan: Green (RoHS & no Sb/Br); Mounting Technology: Surface Mount; Code_JEDEC: MS-012; ComponentLink1Description: Manufacturer URL; ComponentLink1URL: http://www.ti.com/; ComponentLink2Description: Datasheet; ComponentLink2URL: http://www.ti.com/general/docs/lit/getliterature.tsp?genericPartNumber=TLC5916&fileType=pdf; ComponentLink3Description: Package Specification; ComponentLink3URL: http://www.ti.com/litv/pdf/mpds178g
footprint TI-D16_N (SOIC, 16-Leads, Body 9.9x3.9mm, Pitch 1.27mm, IPC Medium Density)
footprint TI-D16_L (SOIC, 16-Leads, Body 9.9x3.9mm, Pitch 1.27mm, IPC High Density)
footprint TI-D16_M (SOIC, 16-Leads, Body 9.9x3.9mm, Pitch 1.27mm, IPC Low Density)
pins: 1 GND (power) "Ground for control logic and current sink", 2 SDI (in) "Serial-data input to the Shift register", 3 CLK (in) "Clock input for data shift on rising edge", 4 LE(ED1) (in) "Data strobe input Serial data is transferred to the respective latch when LE(ED1) is high. The data is latched when LE(ED1) goes low. Also, a control signal input for an Error Detection Mode and Current Adjust Mode (see (See Datasheet)", 5 ~{OUT0} (out) "Constant-current output", 6 ~{OUT1} (out) "Constant-current output", 7 ~{OUT2} (out) "Constant-current output", 8 ~{OUT3} (out) "Constant-current output", 9 ~{OUT4} (out) "Constant-current output", 10 ~{OUT5} (out) "Constant-current output", 11 ~{OUT6} (out) "Constant-current output", 12 ~{OUT7} (out) "Constant-current output", 13 ~{OE}(ED2) (in) "Output enable. When O\E\(ED2) is active (low), the output drivers are enabled; when O\E\(ED2) is high, all output drivers are turned OFF (blanked). Also, a control signal input for an Error Detection Mode and Current Adjust (See Datasheet)", 14 SDO (out) "Serial-data output to the following SDI of next driver IC or to the microcontroller", 15 R-EXT (in) "External Resistor - Connect an external resistor to ground to set the current for all outputs", 16 VDD (power) "Supply voltage"

## TLC5916IDG4
designator U?
8-Bit Constant-Current LED Sink Driver, 3 to 5.5 V, -40 to 125 degC, 16-pin SOIC (D16), Green (RoHS & no Sb/Br); Manufacturer: Texas Instruments; PartNumber: TLC5916IDG4; Iout(Max)(A): 0.12; Rating: Catalog; SubFamily: Signage/Linear; Vin(Max)(V): 5.5; Vin(Min)(V): 3; DatasheetVersion: SLVS695C; PackageVersion: 4040047-6/M; PackageReference: D16; PackageDescription: 16-Pin Plastic Small Outline, Body 9.90 x 3.90 mm, Pitch 1.27 mm; Supplier 1: Digi-Key; Supplier Part Number 1: TLC5916IDG4-ND; Supplier 2: Newark; Supplier Part Number 2: 60M1746; Supplier 3: Mouser; Supplier Part Number 3: 595-TLC5916IDG4; Eco-Plan: Green (RoHS & no Sb/Br); Mounting Technology: Surface Mount; Code_JEDEC: MS-012; ComponentLink1Description: Manufacturer URL; ComponentLink1URL: http://www.ti.com/; ComponentLink2Description: Datasheet; ComponentLink2URL: http://www.ti.com/general/docs/lit/getliterature.tsp?genericPartNumber=TLC5916&fileType=pdf; ComponentLink3Description: Package Specification; ComponentLink3URL: http://www.ti.com/litv/pdf/mpds178g
footprint TI-D16_N (SOIC, 16-Leads, Body 9.9x3.9mm, Pitch 1.27mm, IPC Medium Density)
footprint TI-D16_L (SOIC, 16-Leads, Body 9.9x3.9mm, Pitch 1.27mm, IPC High Density)
footprint TI-D16_M (SOIC, 16-Leads, Body 9.9x3.9mm, Pitch 1.27mm, IPC Low Density)
pins: 1 GND (power) "Ground for control logic and current sink", 2 SDI (in) "Serial-data input to the Shift register", 3 CLK (in) "Clock input for data shift on rising edge", 4 LE(ED1) (in) "Data strobe input Serial data is transferred to the respective latch when LE(ED1) is high. The data is latched when LE(ED1) goes low. Also, a control signal input for an Error Detection Mode and Current Adjust Mode (see (See Datasheet)", 5 ~{OUT0} (out) "Constant-current output", 6 ~{OUT1} (out) "Constant-current output", 7 ~{OUT2} (out) "Constant-current output", 8 ~{OUT3} (out) "Constant-current output", 9 ~{OUT4} (out) "Constant-current output", 10 ~{OUT5} (out) "Constant-current output", 11 ~{OUT6} (out) "Constant-current output", 12 ~{OUT7} (out) "Constant-current output", 13 ~{OE}(ED2) (in) "Output enable. When O\E\(ED2) is active (low), the output drivers are enabled; when O\E\(ED2) is high, all output drivers are turned OFF (blanked). Also, a control signal input for an Error Detection Mode and Current Adjust (See Datasheet)", 14 SDO (out) "Serial-data output to the following SDI of next driver IC or to the microcontroller", 15 R-EXT (in) "External Resistor - Connect an external resistor to ground to set the current for all outputs", 16 VDD (power) "Supply voltage"